# Altium schematic symbol library SCH - CONNECTOR - IRISO IMSA-9472B-80Z57-TM.Schlib: 1 symbol
Pins are listed as number, name and electrical type; pins without a type are passive.

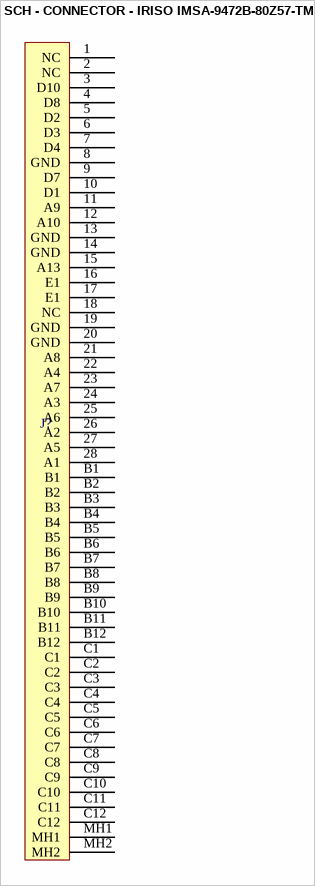
[diagram p0: symbol SCH - CONNECTOR - IRISO IMSA-9472B-80Z57-TM]

## SCH - CONNECTOR - IRISO IMSA-9472B-80Z57-TM
designator J?
footprint IMSA-9472B-80Z57-TM
pins: 1 NC (power), 2 NC (power), 3 D10 (power), 4 D8 (power), 5 D2 (power), 6 D3 (power), 7 D4 (power), 8 GND (power), 9 D7 (power), 10 D1 (power), 11 A9 (power), 12 A10 (power), 13 GND (power), 14 GND (power), 15 A13 (power), 16 E1 (power), 17 E1 (power), 18 NC (power), 19 GND (power), 20 GND (power), 21 A8 (power), 22 A4 (power), 23 A7 (power), 24 A3 (power), 25 A6 (power), 26 A2 (power), 27 A5 (power), 28 A1 (power), B1 (power), B2 (power), B3 (power), B4 (power), B5 (power), B6 (power), B7 (power), B8 (power), B9 (power), B10 (power), B11 (power), B12 (power), C1 (power), C2 (power), C3 (power), C4 (power), C5 (power), C6 (power), C7 (power), C8 (power), C9 (power), C10 (power), C11 (power), C12 (power), MH1, MH2